# Altium integrated library SMA-J-P-HF-RA-SM1.IntLib: 1 symbol
Pins are listed as number, name and electrical type; pins without a type are passive.

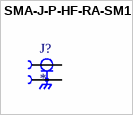
[diagram p0: symbol SMA-J-P-HF-RA-SM1]

## SMA-J-P-HF-RA-SM1
designator J?
50 Ohm SMA Jack Board Connector; MF: Samtec; MP: SMA-J-P-HF-RA-SM1; SnapEDA_Link: https://www.snapeda.com/parts/SMA-J-P-HF-RA-SM1/Samtec/view-part/?ref=snap; Package: None; Value: *; Check_prices: https://www.snapeda.com/parts/SMA-J-P-HF-RA-SM1/Samtec/view-part/?ref=eda
footprint SAMTEC_SMA-J-P-HF-RA-SM1
pins: 1, S1 2, S2 2, S3 2, S4 2